# EAGLE library part 62000611821 (library Wuerth_Elektronik_eiCan_Pin_&_Socked_Headers_v1.3)
WR-PHD 2.00mm Socket Header, 6 Pins
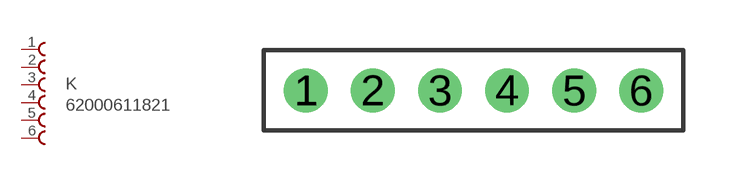
[diagram p288: symbol with the pads of 62000611821; footprint 62000611821]

Designator prefix K

## 62000611821  [62000611821]
1  1  pas
2  2  pas
3  3  pas
4  4  pas
5  5  pas
6  6  pas

## Footprint 62000611821 (pad centres in mm)
WR-PHD 2.00mm Socket Header, 6 Pins
drill 0.8 round: 1 -5,0; 2 -3,0; 3 -1,0; 4 1,0; 5 3,0; 6 5,0